# Altium footprint library MODULE_OC09600.PcbLib: 1 footprints
Each footprint in its own frame and in the unit in brackets; x right, y up, seen from the top. Pads: shape width x height; smd on the part's side, far side on the other; paste and mask are expansions set on the pad; w line width, h text height; cw(c..) or ccw(c..) is an arc to the next point about the centre after c.
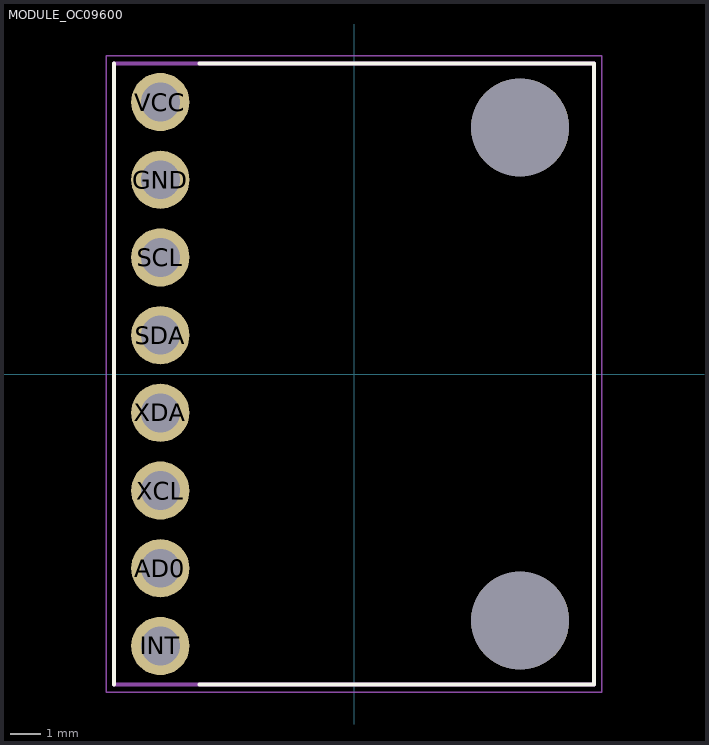
[diagram p0: the footprint, top view; thin cyan lines are the x and y axes]

## MODULE_OC09600 [mm]
height 3
pads (10):
  round 1.905 hole 1.27 mask+0.102: AD0(-6.33,-6.35) GND(-6.33,6.35) INT(-6.33,-8.89) SCL(-6.33,3.81) SDA(-6.33,1.27) VCC(-6.33,8.89) XCL(-6.33,-3.81) XDA(-6.33,-1.27)
  round 3.2 hole 3.2 unplated mask+0: ""(5.43,-8.06) ""(5.43,8.06)
Top Overlay:
  lines w0.127: -7.85,-10.15 -7.85,10.15 ; -5.058,-10.15 7.85,-10.15 7.85,10.15 -5.058,10.15
Assembly Top:
  lines w0.127: -7.85,-10.15 -7.85,10.15 7.85,10.15 7.85,-10.15 -7.85,-10.15
Courtyard Top:
  lines w0.05: -8.1,-10.4 8.1,-10.4 8.1,10.4 -8.1,10.4 -8.1,-10.4
3D body "step_temp.STEP": height 3, standoff 0, extent -7.85,-10.15 7.85,10.15